# Altium footprint library LQFP-80_14x14x065P.PcbLib: 1 footprints
Each footprint in its own frame and in the unit in brackets; x right, y up, seen from the top. Pads: shape width x height; smd on the part's side, far side on the other; paste and mask are expansions set on the pad; w line width, h text height; cw(c..) or ccw(c..) is an arc to the next point about the centre after c.
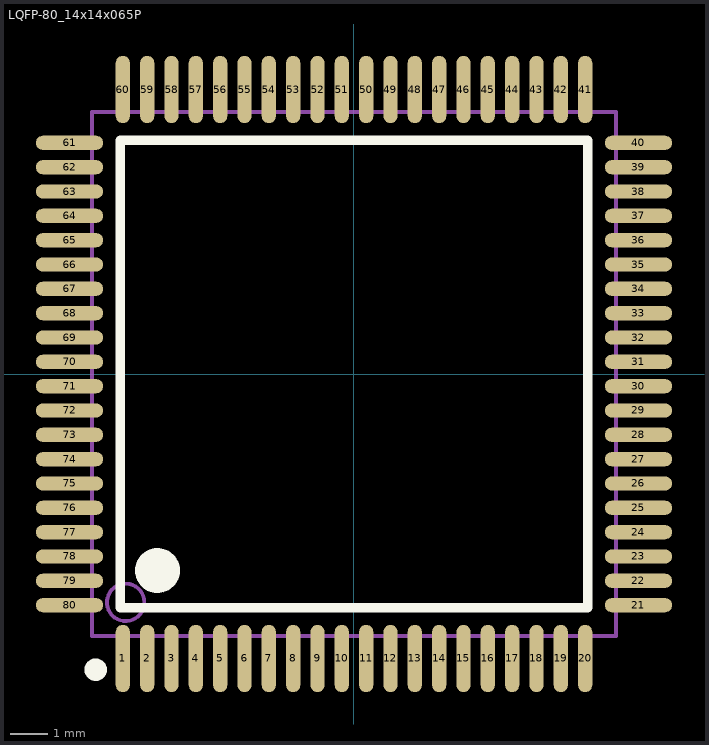
[diagram p0: the footprint, top view; thin cyan lines are the x and y axes]

## LQFP-80_14x14x065P [mm]
pads (80):
  oval 0.38x1.8 smd mask+0.051: 1(-6.175,-7.6) 2(-5.525,-7.6) 3(-4.875,-7.6) 4(-4.225,-7.6) 5(-3.575,-7.6) 6(-2.925,-7.6) 7(-2.275,-7.6) 8(-1.625,-7.6) 9(-0.975,-7.6) 10(-0.325,-7.6) 11(0.325,-7.6) 12(0.975,-7.6) 13(1.625,-7.6) 14(2.275,-7.6) 15(2.925,-7.6) 16(3.575,-7.6) 17(4.225,-7.6) 18(4.875,-7.6) 19(5.525,-7.6) 20(6.175,-7.6) 41(6.175,7.6) 42(5.525,7.6) 43(4.875,7.6) 44(4.225,7.6) 45(3.575,7.6) 46(2.925,7.6) 47(2.275,7.6) 48(1.625,7.6) 49(0.975,7.6) 50(0.325,7.6) 51(-0.325,7.6) 52(-0.975,7.6) 53(-1.625,7.6) 54(-2.275,7.6) 55(-2.925,7.6) 56(-3.575,7.6) 57(-4.225,7.6) 58(-4.875,7.6) 59(-5.525,7.6) 60(-6.175,7.6)
  oval 1.8x0.38 smd mask+0.051: 21(7.6,-6.175) 22(7.6,-5.525) 23(7.6,-4.875) 24(7.6,-4.225) 25(7.6,-3.575) 26(7.6,-2.925) 27(7.6,-2.275) 28(7.6,-1.625) 29(7.6,-0.975) 30(7.6,-0.325) 31(7.6,0.325) 32(7.6,0.975) 33(7.6,1.625) 34(7.6,2.275) 35(7.6,2.925) 36(7.6,3.575) 37(7.6,4.225) 38(7.6,4.875) 39(7.6,5.525) 40(7.6,6.175) 61(-7.6,6.175) 62(-7.6,5.525) 63(-7.6,4.875) 64(-7.6,4.225) 65(-7.6,3.575) 66(-7.6,2.925) 67(-7.6,2.275) 68(-7.6,1.625) 69(-7.6,0.975) 70(-7.6,0.325) 71(-7.6,-0.325) 72(-7.6,-0.975) 73(-7.6,-1.625) 74(-7.6,-2.275) 75(-7.6,-2.925) 76(-7.6,-3.575) 77(-7.6,-4.225) 78(-7.6,-4.875) 79(-7.6,-5.525) 80(-7.6,-6.175)
Top Overlay:
  circle w0.6: c-5.25,-5.25 r0.3
  circle w0.3: c-6.9,-7.9 r0.15
  lines w0.254: -6.25,-6.25 -6.25,6.25 6.25,6.25 6.25,-6.25 -6.25,-6.25
Mechanical 13:
  circle w0.1: c-6.1,-6.1 r0.5
  lines w0.1: -7,-7 -7,7 7,7 7,-7 -7,-7